# Altium integrated library Cypress Clocks & Buffers Clock Generation.IntLib: 249 symbols (part 5 of 12)
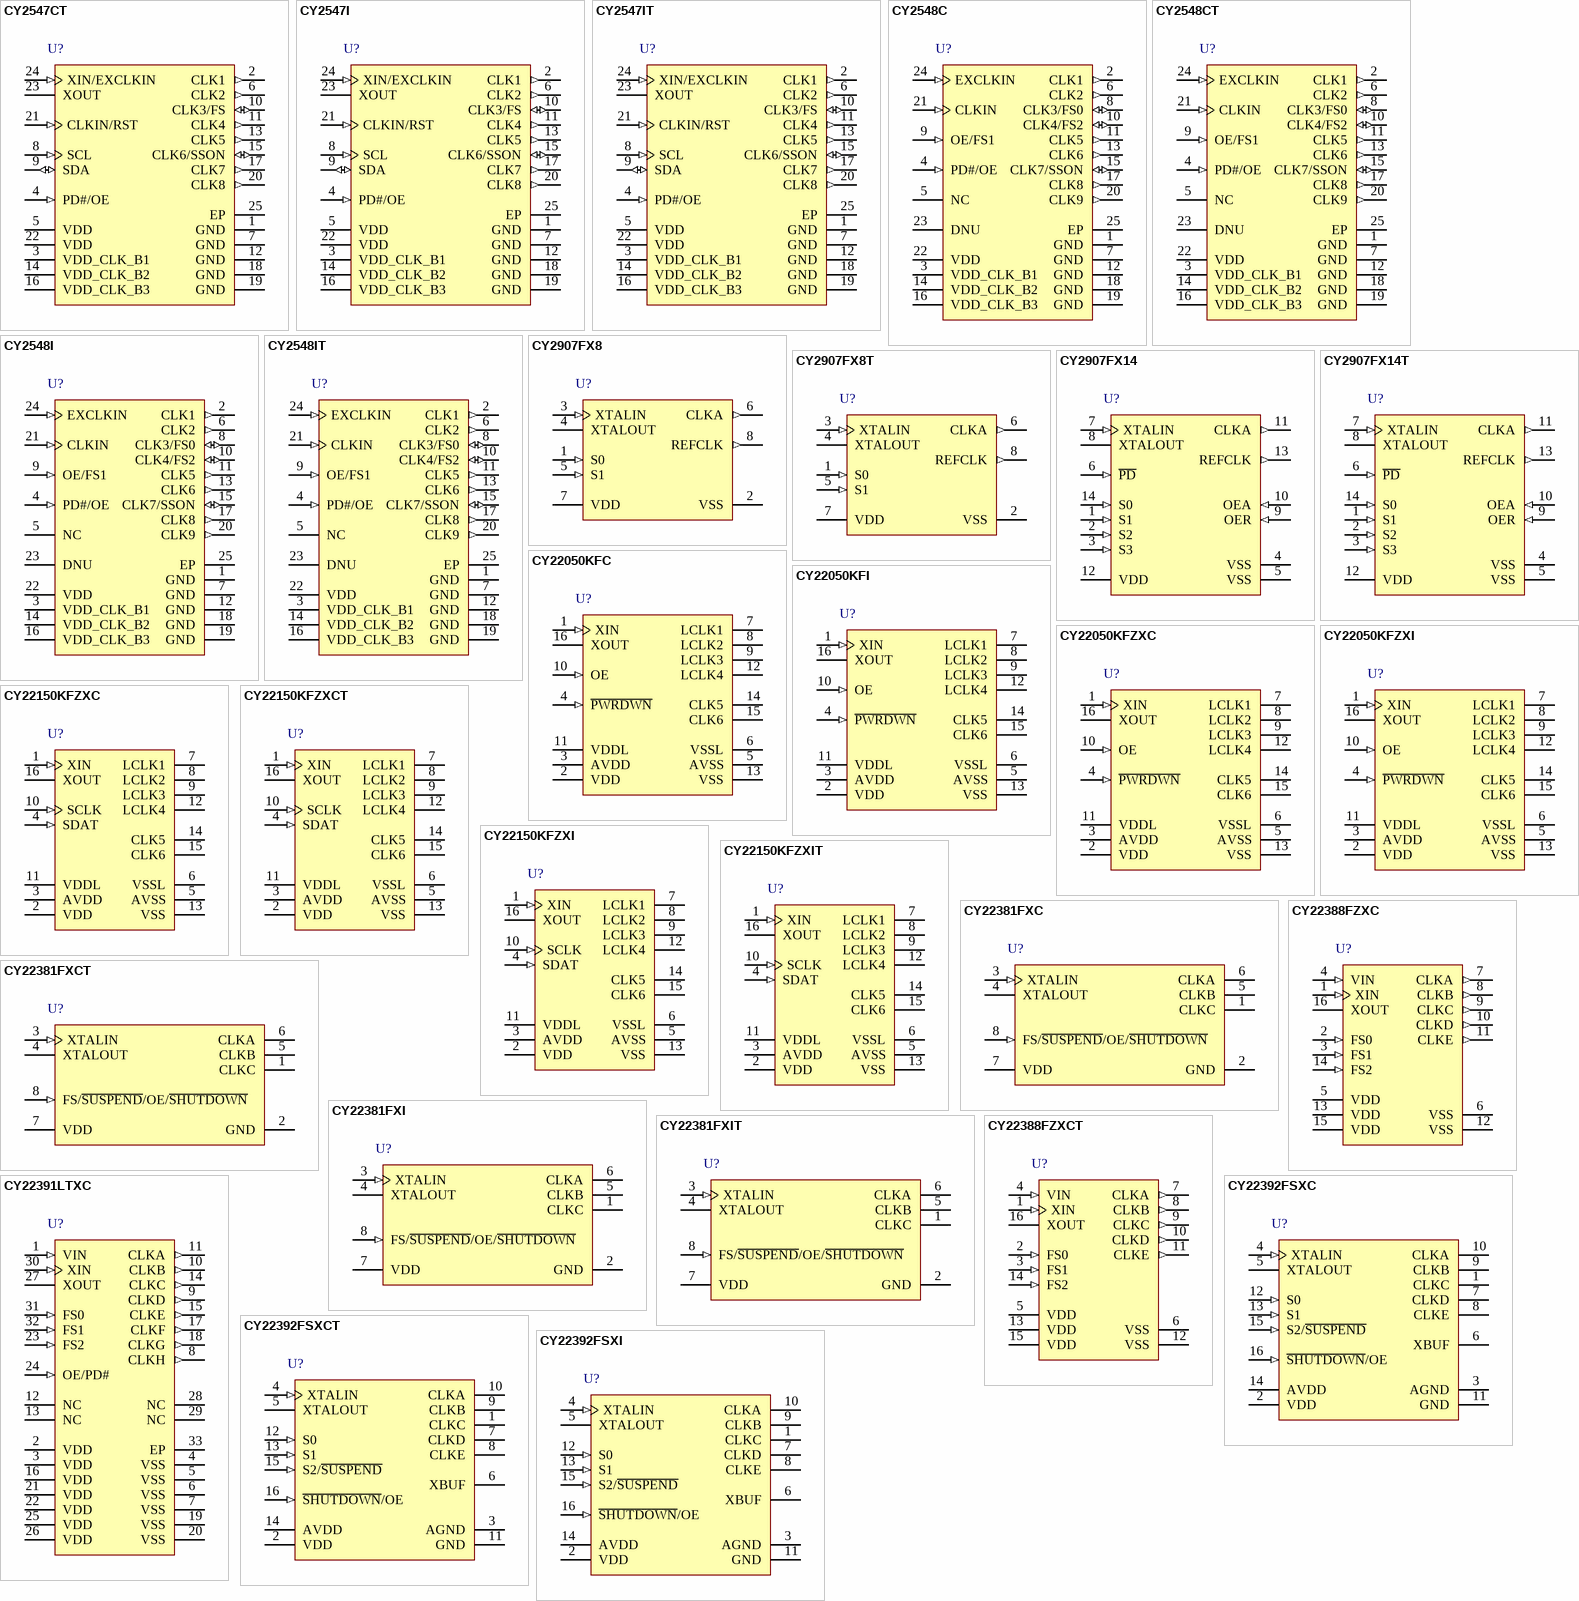
[diagram p12: symbols CY2547CT to CY22392FSXI]

## CY22391LTXC
designator U?
Factory Programmable Quad PLL Clock Generator with VCXO, 2.5 / 3.3 V, 8 Outputs, 5 to 166 MHz, 0 to 70 degC, 32-Pin QFN (LTX32), Tube; Manufacturer: Cypress; PartNumber: CY22391LTXC; Input Frequency Max. (MHz): 100; Input Frequency Min. (MHz): 1; Max. Operating Voltage (V): 3.6; Min. Operating Voltage (V): 3; No. of Outputs: 8; Output Frequency Max. (MHz): 166; Output Frequency Min. (MHz): 5; DatasheetVersion: Rev. *G; PackageVersion: Rev. *D, 09/2012; PackageReference: LTX32; PackageDescription: 32-Pin Swan QFN, Body 5 x 5 mm, Pitch 0.5 mm; Supplier 1: Digi-Key; Supplier Part Number 1: CY22391LTXC-ND; Supplier 2: Mouser; Supplier Part Number 2: 727-CY22391LTXC; Max. Operating Temp. (degreesC): 70; Min. Operating Temp. (degreesC): 0; Packing: Tube; RoHS: Pb-Free; Mounting Technology: Surface Mount; Code_JEDEC: MO-220; ComponentLink1Description: Manufacturer URL; ComponentLink1URL: http://www.cypress.com/; ComponentLink2Description: Datasheet; ComponentLink2URL: http://www.cypress.com/?docID=46154; ComponentLink3Description: Package Specification; ComponentLink3URL: http://www.cypress.com/?docID=39513
footprint CYP-LTX32_N (QFN, 32-Leads, Body 5.1x5.1mm, Pitch 0.5mm, Thermal Pad 3.5x3.5mm, IPC Medium Density)
footprint CYP-LTX32_L (QFN, 32-Leads, Body 5.1x5.1mm, Pitch 0.5mm, Thermal Pad 3.5x3.5mm, IPC High Density)
footprint CYP-LTX32_M (QFN, 32-Leads, Body 5.1x5.1mm, Pitch 0.5mm, Thermal Pad 3.5x3.5mm, IPC Low Density)
pins: 1 VIN (in) "Analog control input for VCXO", 2 VDD (power) "Voltage supply", 3 VDD (power) "Voltage supply", 4 VSS (power) "Ground", 5 VSS (power) "Ground", 6 VSS (power) "Ground", 7 VSS (power) "Ground", 8 CLKH (out) "Clock output", 9 CLKD (out) "Clock output", 10 CLKB (out) "Clock output", 11 CLKA (out) "Clock output", 12 NC "No connect.", 13 NC "No connect.", 14 CLKC (out) "Clock output", 15 CLKE (out) "Clock output", 16 VDD (power) "Voltage supply", 17 CLKF (out) "Clock output", 18 CLKG (out) "Clock output", 19 VSS (power) "Ground", 20 VSS (power) "Ground", 21 VDD (power) "Voltage supply", 22 VDD (power) "Voltage supply", 23 FS2 (in) "Frequency select 2", 24 OE/PD# (in) "Programmable control pin: Output enable (active-high) or power-down (active-low)", 25 VDD (power) "Voltage supply", 26 VDD (power) "Voltage supply", 27 XOUT "Crystal output (No connect if external clock is used)", 28 NC "No connect.", 29 NC "No connect.", 30 XIN (in) "Crystal input or reference clock input", 31 FS0 (in) "Frequency select 0", 32 FS1 (in) "Frequency select 1", 33 EP

## CY22392FSXC
designator U?
Three-PLL General Purpose Flash Programmable Clock Generator, 3.3 V, 6 Outputs, 200 MHz Maximum, 0 to 70 degC, 16-Pin SOIC (SZ16), Tube; Manufacturer: Cypress; PartNumber: CY22392FSXC; Input Frequency Max. (MHz): 166; Input Frequency Min. (MHz): 1; Max. Operating Voltage (V): 3.465; Min. Operating Voltage (V): 3.135; No. of Outputs: 6; Output Frequency Max. (MHz): 200; DatasheetVersion: Rev. *I; PackageVersion: Rev. *E; PackageReference: SZ16; PackageDescription: 16-Pin Small Outline Integrated Circuit Package, Body 9.893 x 3.8985 mm, Pitch 1.27 mm; Max. Operating Temp. (degreesC): 70; Min. Operating Temp. (degreesC): 0; Packing: Tube; RoHS: Pb-Free; Mounting Technology: Surface Mount; Code_JEDEC: MS-012; ComponentLink1Description: Manufacturer URL; ComponentLink1URL: http://www.cypress.com/; ComponentLink2Description: Datasheet; ComponentLink2URL: http://www.cypress.com/?docID=42925; ComponentLink3Description: Package Specification; ComponentLink3URL: http://www.cypress.com/?docID=42925
footprint CYP-SZ16_N (SOIC, 16-Leads, Body 10x4mm, Pitch 1.27mm, IPC Medium Density)
footprint CYP-SZ16_L (SOIC, 16-Leads, Body 10x4mm, Pitch 1.27mm, IPC High Density)
footprint CYP-SZ16_M (SOIC, 16-Leads, Body 10x4mm, Pitch 1.27mm, IPC Low Density)
pins: 1 CLKC (hiz) "Configurable clock output C", 2 VDD (power) "Power supply", 3 AGND (power) "Analog Ground", 4 XTALIN (in) "Reference crystal input or external reference clock input", 5 XTALOUT "Reference crystal feedback", 6 XBUF (hiz) "Buffered reference clock output", 7 CLKD (hiz) "Configurable clock output D", 8 CLKE (hiz) "Configurable clock output E", 9 CLKB (hiz) "Configurable clock output B", 10 CLKA (hiz) "Configurable clock output A", 11 GND (power) "Ground", 12 S0 (in) "General Purpose Input for Frequency Control; bit 0", 13 S1 (in) "General Purpose Input for Frequency Control; bit 1", 14 AVDD (power) "Analog Power Supply", 15 S2/~{SUSPEND} (in) "General Purpose Input for Frequency Control; bit 2. Optionally Suspend mode control input.", 16 ~{SHUTDOWN}/OE (in) "Places outputs in three-state condition and shuts down chip when Low. Optionally, only places outputs in tristate condition and does not shut down chip when Low."

## CY22392FSXCT
designator U?
Three-PLL General Purpose Flash Programmable Clock Generator, 3.3 V, 6 Outputs, 200 MHz Maximum, 0 to 70 degC, 16-Pin SOIC (SZ16), Tape and Reel; Manufacturer: Cypress; PartNumber: CY22392FSXCT; Input Frequency Max. (MHz): 166; Input Frequency Min. (MHz): 1; Max. Operating Voltage (V): 3.465; Min. Operating Voltage (V): 3.135; No. of Outputs: 6; Output Frequency Max. (MHz): 200; DatasheetVersion: Rev. *I; PackageVersion: Rev. *E; PackageReference: SZ16; PackageDescription: 16-Pin Small Outline Integrated Circuit Package, Body 9.893 x 3.8985 mm, Pitch 1.27 mm; Max. Operating Temp. (degreesC): 70; Min. Operating Temp. (degreesC): 0; Packing: Tape and Reel; RoHS: Pb-Free; Mounting Technology: Surface Mount; Code_JEDEC: MS-012; ComponentLink1Description: Manufacturer URL; ComponentLink1URL: http://www.cypress.com/; ComponentLink2Description: Datasheet; ComponentLink2URL: http://www.cypress.com/?docID=42925; ComponentLink3Description: Package Specification; ComponentLink3URL: http://www.cypress.com/?docID=42925
footprint CYP-SZ16_N (SOIC, 16-Leads, Body 10x4mm, Pitch 1.27mm, IPC Medium Density)
footprint CYP-SZ16_L (SOIC, 16-Leads, Body 10x4mm, Pitch 1.27mm, IPC High Density)
footprint CYP-SZ16_M (SOIC, 16-Leads, Body 10x4mm, Pitch 1.27mm, IPC Low Density)
pins: 1 CLKC (hiz) "Configurable clock output C", 2 VDD (power) "Power supply", 3 AGND (power) "Analog Ground", 4 XTALIN (in) "Reference crystal input or external reference clock input", 5 XTALOUT "Reference crystal feedback", 6 XBUF (hiz) "Buffered reference clock output", 7 CLKD (hiz) "Configurable clock output D", 8 CLKE (hiz) "Configurable clock output E", 9 CLKB (hiz) "Configurable clock output B", 10 CLKA (hiz) "Configurable clock output A", 11 GND (power) "Ground", 12 S0 (in) "General Purpose Input for Frequency Control; bit 0", 13 S1 (in) "General Purpose Input for Frequency Control; bit 1", 14 AVDD (power) "Analog Power Supply", 15 S2/~{SUSPEND} (in) "General Purpose Input for Frequency Control; bit 2. Optionally Suspend mode control input.", 16 ~{SHUTDOWN}/OE (in) "Places outputs in three-state condition and shuts down chip when Low. Optionally, only places outputs in tristate condition and does not shut down chip when Low."

## CY22392FSXI
designator U?
Three-PLL General Purpose Flash Programmable Clock Generator, 3.3 V, 6 Outputs, 166 MHz Maximum, -40 to 85 degC, 16-Pin SOIC (SX16), Tube; Manufacturer: Cypress; PartNumber: CY22392FSXI; Input Frequency Max. (MHz): 150; Input Frequency Min. (MHz): 1; Max. Operating Voltage (V): 3.465; Min. Operating Voltage (V): 3.135; No. of Outputs: 6; Output Frequency Max. (MHz): 166; DatasheetVersion: Rev. *I; PackageVersion: Rev. *E, 09/2012; PackageReference: SX16; PackageDescription: 16-Pin SOIC (150 MIL), Body 9.89 x 3.90 mm, Pitch 1.27 mm; Max. Operating Temp. (degreesC): 85; Min. Operating Temp. (degreesC): -40; Packing: Tube; RoHS: Pb-Free; Mounting Technology: Surface Mount; Code_JEDEC: MS-012; ComponentLink1Description: Manufacturer URL; ComponentLink1URL: http://www.cypress.com/; ComponentLink2Description: Datasheet; ComponentLink2URL: http://www.cypress.com/?docID=42925; ComponentLink3Description: Package Specification; ComponentLink3URL: http://www.cypress.com/?docID=39437
footprint CYP-SX16_N (SOIC, 16-Leads, Body 9.9x3.9mm, Pitch 1.27mm, IPC Medium Density)
footprint CYP-SX16_L (SOIC, 16-Leads, Body 9.9x3.9mm, Pitch 1.27mm, IPC High Density)
footprint CYP-SX16_M (SOIC, 16-Leads, Body 9.9x3.9mm, Pitch 1.27mm, IPC Low Density)
pins: 1 CLKC (hiz) "Configurable clock output C", 2 VDD (power) "Power supply", 3 AGND (power) "Analog Ground", 4 XTALIN (in) "Reference crystal input or external reference clock input", 5 XTALOUT "Reference crystal feedback", 6 XBUF (hiz) "Buffered reference clock output", 7 CLKD (hiz) "Configurable clock output D", 8 CLKE (hiz) "Configurable clock output E", 9 CLKB (hiz) "Configurable clock output B", 10 CLKA (hiz) "Configurable clock output A", 11 GND (power) "Ground", 12 S0 (in) "General Purpose Input for Frequency Control; bit 0", 13 S1 (in) "General Purpose Input for Frequency Control; bit 1", 14 AVDD (power) "Analog Power Supply", 15 S2/~{SUSPEND} (in) "General Purpose Input for Frequency Control; bit 2. Optionally Suspend mode control input.", 16 ~{SHUTDOWN}/OE (in) "Places outputs in three-state condition and shuts down chip when Low. Optionally, only places outputs in tristate condition and does not shut down chip when Low."

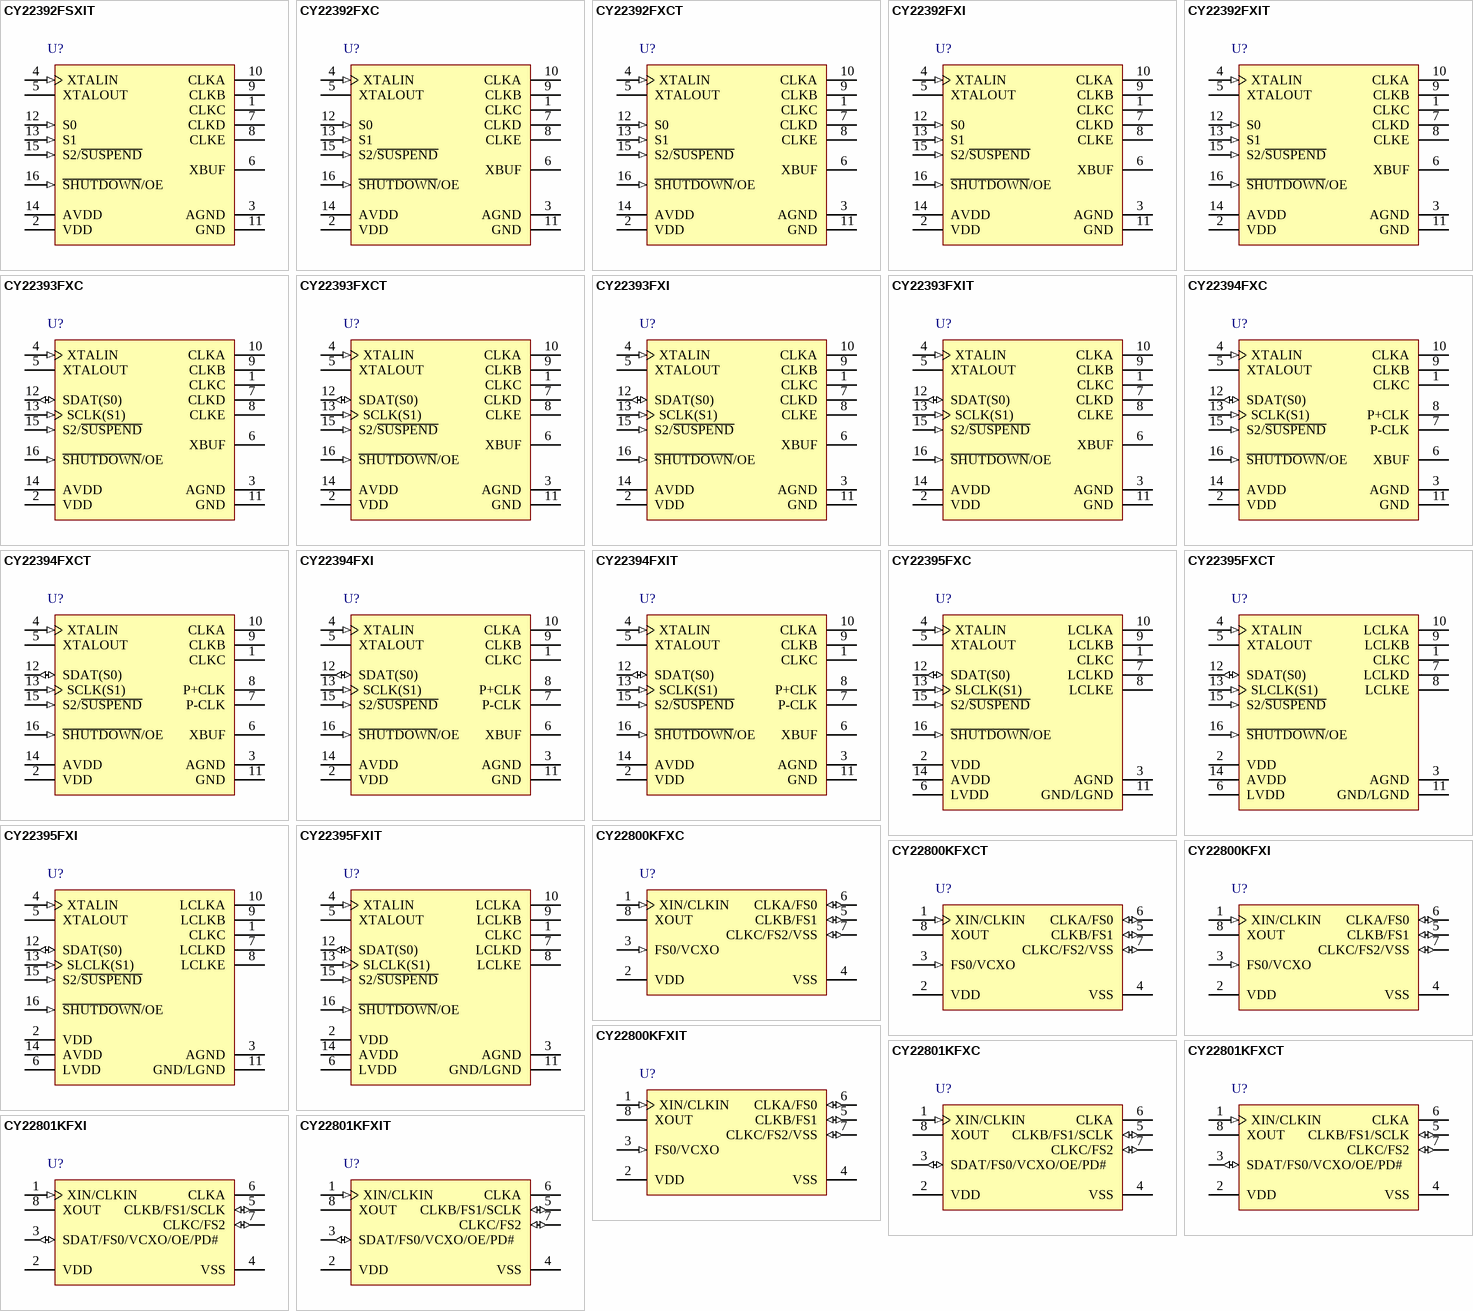
[diagram p3: symbols CY22392FSXIT to CY22801KFXIT]

## CY22392FSXIT
designator U?
Three-PLL General Purpose Flash Programmable Clock Generator, 3.3 V, 6 Outputs, 166 MHz Maximum, -40 to 85 degC, 16-Pin SOIC (SX16), Tape and Reel; Manufacturer: Cypress; PartNumber: CY22392FSXIT; Input Frequency Max. (MHz): 150; Input Frequency Min. (MHz): 1; Max. Operating Voltage (V): 3.465; Min. Operating Voltage (V): 3.135; No. of Outputs: 6; Output Frequency Max. (MHz): 166; DatasheetVersion: Rev. *I; PackageVersion: Rev. *E, 09/2012; PackageReference: SX16; PackageDescription: 16-Pin SOIC (150 MIL), Body 9.89 x 3.90 mm, Pitch 1.27 mm; Max. Operating Temp. (degreesC): 85; Min. Operating Temp. (degreesC): -40; Packing: Tape and Reel; RoHS: Pb-Free; Mounting Technology: Surface Mount; Code_JEDEC: MS-012; ComponentLink1Description: Manufacturer URL; ComponentLink1URL: http://www.cypress.com/; ComponentLink2Description: Datasheet; ComponentLink2URL: http://www.cypress.com/?docID=42925; ComponentLink3Description: Package Specification; ComponentLink3URL: http://www.cypress.com/?docID=39437
footprint CYP-SX16_N (SOIC, 16-Leads, Body 9.9x3.9mm, Pitch 1.27mm, IPC Medium Density)
footprint CYP-SX16_L (SOIC, 16-Leads, Body 9.9x3.9mm, Pitch 1.27mm, IPC High Density)
footprint CYP-SX16_M (SOIC, 16-Leads, Body 9.9x3.9mm, Pitch 1.27mm, IPC Low Density)
pins: 1 CLKC (hiz) "Configurable clock output C", 2 VDD (power) "Power supply", 3 AGND (power) "Analog Ground", 4 XTALIN (in) "Reference crystal input or external reference clock input", 5 XTALOUT "Reference crystal feedback", 6 XBUF (hiz) "Buffered reference clock output", 7 CLKD (hiz) "Configurable clock output D", 8 CLKE (hiz) "Configurable clock output E", 9 CLKB (hiz) "Configurable clock output B", 10 CLKA (hiz) "Configurable clock output A", 11 GND (power) "Ground", 12 S0 (in) "General Purpose Input for Frequency Control; bit 0", 13 S1 (in) "General Purpose Input for Frequency Control; bit 1", 14 AVDD (power) "Analog Power Supply", 15 S2/~{SUSPEND} (in) "General Purpose Input for Frequency Control; bit 2. Optionally Suspend mode control input.", 16 ~{SHUTDOWN}/OE (in) "Places outputs in three-state condition and shuts down chip when Low. Optionally, only places outputs in tristate condition and does not shut down chip when Low."

## CY22392FXC
designator U?
Three-PLL General Purpose Flash Programmable Clock Generator, 3.3 V, 6 Outputs, 200 MHz Maximum, 0 to 70 degC, 16-Pin TSSOP (ZX16), Tube; Manufacturer: Cypress; PartNumber: CY22392FXC; Input Frequency Max. (MHz): 166; Input Frequency Min. (MHz): 1; Max. Operating Voltage (V): 3.465; Min. Operating Voltage (V): 3.135; No. of Outputs: 6; Output Frequency Max. (MHz): 200; DatasheetVersion: Rev. *I; PackageVersion: Rev. *D, 09/2011; PackageReference: ZX16; PackageDescription: 16-Pin Thin Shrink Small Outline Package, Body 5 x 4.4 mm, Pitch 0.65 mm; Supplier 1: Digi-Key; Supplier Part Number 1: 428-1743-5-ND; Supplier 2: Farnell; Supplier Part Number 2: 1837331; Supplier 3: Newark; Supplier Part Number 3: 19M5883; Supplier 4: Mouser; Supplier Part Number 4: 727-CY22392FXC; Max. Operating Temp. (degreesC): 70; Min. Operating Temp. (degreesC): 0; Packing: Tube; RoHS: Pb-Free; Mounting Technology: Surface Mount; Code_JEDEC: MO-153; ComponentLink1Description: Manufacturer URL; ComponentLink1URL: http://www.cypress.com/; ComponentLink2Description: Datasheet; ComponentLink2URL: http://www.cypress.com/?docID=42925; ComponentLink3Description: Package Specification; ComponentLink3URL: http://www.cypress.com/?docID=39143
footprint CYP-ZX16_N (SOP, 16-Leads, Body 5.1x4.5mm, Pitch 0.65mm, IPC Medium Density)
footprint CYP-ZX16_L (SOP, 16-Leads, Body 5.1x4.5mm, Pitch 0.65mm, IPC High Density)
footprint CYP-ZX16_M (SOP, 16-Leads, Body 5.1x4.5mm, Pitch 0.65mm, IPC Low Density)
pins: 1 CLKC (hiz) "Configurable clock output C", 2 VDD (power) "Power supply", 3 AGND (power) "Analog Ground", 4 XTALIN (in) "Reference crystal input or external reference clock input", 5 XTALOUT "Reference crystal feedback", 6 XBUF (hiz) "Buffered reference clock output", 7 CLKD (hiz) "Configurable clock output D", 8 CLKE (hiz) "Configurable clock output E", 9 CLKB (hiz) "Configurable clock output B", 10 CLKA (hiz) "Configurable clock output A", 11 GND (power) "Ground", 12 S0 (in) "General Purpose Input for Frequency Control; bit 0", 13 S1 (in) "General Purpose Input for Frequency Control; bit 1", 14 AVDD (power) "Analog Power Supply", 15 S2/~{SUSPEND} (in) "General Purpose Input for Frequency Control; bit 2. Optionally Suspend mode control input.", 16 ~{SHUTDOWN}/OE (in) "Places outputs in three-state condition and shuts down chip when Low. Optionally, only places outputs in tristate condition and does not shut down chip when Low."

## CY22392FXCT
designator U?
Three-PLL General Purpose Flash Programmable Clock Generator, 3.3 V, 6 Outputs, 200 MHz Maximum, 0 to 70 degC, 16-Pin TSSOP (ZZ16), Tape and Reel; Manufacturer: Cypress; PartNumber: CY22392FXCT; Input Frequency Max. (MHz): 166; Input Frequency Min. (MHz): 1; Max. Operating Voltage (V): 3.465; Min. Operating Voltage (V): 3.135; No. of Outputs: 6; Output Frequency Max. (MHz): 200; DatasheetVersion: Rev. *I; PackageVersion: Rev. *D; PackageReference: ZZ16; PackageDescription: 16-Pin Thin Shrink Small Outline Package, Body 5 x 4.4 mm, Pitch 0.65 mm; Supplier 1: Digi-Key; Supplier Part Number 1: CY22392FXCT-ND; Supplier 2: Mouser; Supplier Part Number 2: 727-CY22392FXCT; Max. Operating Temp. (degreesC): 70; Min. Operating Temp. (degreesC): 0; Packing: Tape and Reel; RoHS: Pb-Free; Mounting Technology: Surface Mount; Code_JEDEC: MO-153; ComponentLink1Description: Manufacturer URL; ComponentLink1URL: http://www.cypress.com/; ComponentLink2Description: Datasheet; ComponentLink2URL: http://www.cypress.com/?docID=42925; ComponentLink3Description: Package Specification; ComponentLink3URL: http://www.cypress.com/?docID=42925
footprint CYP-ZZ16_N (SOP, 16-Leads, Body 5.1x4.5mm, Pitch 0.65mm, IPC Medium Density)
footprint CYP-ZZ16_L (SOP, 16-Leads, Body 5.1x4.5mm, Pitch 0.65mm, IPC High Density)
footprint CYP-ZZ16_M (SOP, 16-Leads, Body 5.1x4.5mm, Pitch 0.65mm, IPC Low Density)
pins: 1 CLKC (hiz) "Configurable clock output C", 2 VDD (power) "Power supply", 3 AGND (power) "Analog Ground", 4 XTALIN (in) "Reference crystal input or external reference clock input", 5 XTALOUT "Reference crystal feedback", 6 XBUF (hiz) "Buffered reference clock output", 7 CLKD (hiz) "Configurable clock output D", 8 CLKE (hiz) "Configurable clock output E", 9 CLKB (hiz) "Configurable clock output B", 10 CLKA (hiz) "Configurable clock output A", 11 GND (power) "Ground", 12 S0 (in) "General Purpose Input for Frequency Control; bit 0", 13 S1 (in) "General Purpose Input for Frequency Control; bit 1", 14 AVDD (power) "Analog Power Supply", 15 S2/~{SUSPEND} (in) "General Purpose Input for Frequency Control; bit 2. Optionally Suspend mode control input.", 16 ~{SHUTDOWN}/OE (in) "Places outputs in three-state condition and shuts down chip when Low. Optionally, only places outputs in tristate condition and does not shut down chip when Low."

## CY22392FXI
designator U?
Three-PLL General Purpose Flash Programmable Clock Generator, 3.3 V, 6 Outputs, 166 MHz Maximum, -40 to 85 degC, 16-Pin TSSOP (ZZ16), Tube; Manufacturer: Cypress; PartNumber: CY22392FXI; Input Frequency Max. (MHz): 150; Input Frequency Min. (MHz): 1; Max. Operating Voltage (V): 3.465; Min. Operating Voltage (V): 3.135; No. of Outputs: 6; Output Frequency Max. (MHz): 166; DatasheetVersion: Rev. *I; PackageVersion: Rev. *D; PackageReference: ZZ16; PackageDescription: 16-Pin Thin Shrink Small Outline Package, Body 5 x 4.4 mm, Pitch 0.65 mm; Supplier 1: Digi-Key; Supplier Part Number 1: 428-2179-5-ND; Supplier 2: Farnell; Supplier Part Number 2: 1873034; Supplier 3: Newark; Supplier Part Number 3: 19M5885; Supplier 4: Mouser; Supplier Part Number 4: 727-CY22392FXI; Max. Operating Temp. (degreesC): 85; Min. Operating Temp. (degreesC): -40; Packing: Tube; RoHS: Pb-Free; Mounting Technology: Surface Mount; Code_JEDEC: MO-153; ComponentLink1Description: Manufacturer URL; ComponentLink1URL: http://www.cypress.com/; ComponentLink2Description: Datasheet; ComponentLink2URL: http://www.cypress.com/?docID=42925; ComponentLink3Description: Package Specification; ComponentLink3URL: http://www.cypress.com/?docID=42925
footprint CYP-ZZ16_N (SOP, 16-Leads, Body 5.1x4.5mm, Pitch 0.65mm, IPC Medium Density)
footprint CYP-ZZ16_L (SOP, 16-Leads, Body 5.1x4.5mm, Pitch 0.65mm, IPC High Density)
footprint CYP-ZZ16_M (SOP, 16-Leads, Body 5.1x4.5mm, Pitch 0.65mm, IPC Low Density)
pins: 1 CLKC (hiz) "Configurable clock output C", 2 VDD (power) "Power supply", 3 AGND (power) "Analog Ground", 4 XTALIN (in) "Reference crystal input or external reference clock input", 5 XTALOUT "Reference crystal feedback", 6 XBUF (hiz) "Buffered reference clock output", 7 CLKD (hiz) "Configurable clock output D", 8 CLKE (hiz) "Configurable clock output E", 9 CLKB (hiz) "Configurable clock output B", 10 CLKA (hiz) "Configurable clock output A", 11 GND (power) "Ground", 12 S0 (in) "General Purpose Input for Frequency Control; bit 0", 13 S1 (in) "General Purpose Input for Frequency Control; bit 1", 14 AVDD (power) "Analog Power Supply", 15 S2/~{SUSPEND} (in) "General Purpose Input for Frequency Control; bit 2. Optionally Suspend mode control input.", 16 ~{SHUTDOWN}/OE (in) "Places outputs in three-state condition and shuts down chip when Low. Optionally, only places outputs in tristate condition and does not shut down chip when Low."

## CY22392FXIT
designator U?
Three-PLL General Purpose Flash Programmable Clock Generator, 3.3 V, 6 Outputs, 166 MHz Maximum, -40 to 85 degC, 16-Pin TSSOP (ZX16), Tape and Reel; Manufacturer: Cypress; PartNumber: CY22392FXIT; Input Frequency Max. (MHz): 150; Input Frequency Min. (MHz): 1; Max. Operating Voltage (V): 3.465; Min. Operating Voltage (V): 3.135; No. of Outputs: 6; Output Frequency Max. (MHz): 166; DatasheetVersion: Rev. *I; PackageVersion: Rev. *D, 09/2011; PackageReference: ZX16; PackageDescription: 16-Pin Thin Shrink Small Outline Package, Body 5 x 4.4 mm, Pitch 0.65 mm; Supplier 1: Digi-Key; Supplier Part Number 1: CY22392FXIT-ND; Supplier 2: Mouser; Supplier Part Number 2: 727-CY22392FXIT; Max. Operating Temp. (degreesC): 85; Min. Operating Temp. (degreesC): -40; Packing: Tape and Reel; RoHS: Pb-Free; Mounting Technology: Surface Mount; Code_JEDEC: MO-153; ComponentLink1Description: Manufacturer URL; ComponentLink1URL: http://www.cypress.com/; ComponentLink2Description: Datasheet; ComponentLink2URL: http://www.cypress.com/?docID=42925; ComponentLink3Description: Package Specification; ComponentLink3URL: http://www.cypress.com/?docID=39143
footprint CYP-ZX16_N (SOP, 16-Leads, Body 5.1x4.5mm, Pitch 0.65mm, IPC Medium Density)
footprint CYP-ZX16_L (SOP, 16-Leads, Body 5.1x4.5mm, Pitch 0.65mm, IPC High Density)
footprint CYP-ZX16_M (SOP, 16-Leads, Body 5.1x4.5mm, Pitch 0.65mm, IPC Low Density)
pins: 1 CLKC (hiz) "Configurable clock output C", 2 VDD (power) "Power supply", 3 AGND (power) "Analog Ground", 4 XTALIN (in) "Reference crystal input or external reference clock input", 5 XTALOUT "Reference crystal feedback", 6 XBUF (hiz) "Buffered reference clock output", 7 CLKD (hiz) "Configurable clock output D", 8 CLKE (hiz) "Configurable clock output E", 9 CLKB (hiz) "Configurable clock output B", 10 CLKA (hiz) "Configurable clock output A", 11 GND (power) "Ground", 12 S0 (in) "General Purpose Input for Frequency Control; bit 0", 13 S1 (in) "General Purpose Input for Frequency Control; bit 1", 14 AVDD (power) "Analog Power Supply", 15 S2/~{SUSPEND} (in) "General Purpose Input for Frequency Control; bit 2. Optionally Suspend mode control input.", 16 ~{SHUTDOWN}/OE (in) "Places outputs in three-state condition and shuts down chip when Low. Optionally, only places outputs in tristate condition and does not shut down chip when Low."

## CY22393FXC
designator U?
Three-PLL Serial-Programmable Flash-Programmable Clock Generator, 3.3 V, 6 Outputs, 200 MHz Maximum, 0 to 70 degC, 16-Pin TSSOP (ZX16), Tube; Manufacturer: Cypress; PartNumber: CY22393FXC; Input Frequency Max. (MHz): 166; Input Frequency Min. (MHz): 1; Max. Operating Voltage (V): 3.465; Min. Operating Voltage (V): 3.135; No. of Outputs: 6; Output Frequency Max. (MHz): 200; DatasheetVersion: Rev. *I; PackageVersion: Rev. *D, 09/2011; PackageReference: ZX16; PackageDescription: 16-Pin Thin Shrink Small Outline Package, Body 5 x 4.4 mm, Pitch 0.65 mm; Supplier 1: Digi-Key; Supplier Part Number 1: 428-1744-5-ND; Supplier 2: Newark; Supplier Part Number 2: 19M5891; Supplier 3: Newark; Supplier Part Number 3: 01N4910; Supplier 4: Mouser; Supplier Part Number 4: 727-CY22393FXC; Max. Operating Temp. (degreesC): 70; Min. Operating Temp. (degreesC): 0; Packing: Tube; RoHS: Pb-Free; Mounting Technology: Surface Mount; Code_JEDEC: MO-153; ComponentLink1Description: Manufacturer URL; ComponentLink1URL: http://www.cypress.com/; ComponentLink2Description: Datasheet; ComponentLink2URL: http://www.cypress.com/?docID=35555; ComponentLink3Description: Package Specification; ComponentLink3URL: http://www.cypress.com/?docID=39143
footprint CYP-ZX16_N (SOP, 16-Leads, Body 5.1x4.5mm, Pitch 0.65mm, IPC Medium Density)
footprint CYP-ZX16_L (SOP, 16-Leads, Body 5.1x4.5mm, Pitch 0.65mm, IPC High Density)
footprint CYP-ZX16_M (SOP, 16-Leads, Body 5.1x4.5mm, Pitch 0.65mm, IPC Low Density)
pins: 1 CLKC (hiz) "Configurable clock output C", 2 VDD (power) "Power supply", 3 AGND (power) "Analog Ground", 4 XTALIN (in) "Reference crystal input or external reference clock input", 5 XTALOUT "Reference crystal feedback", 6 XBUF (hiz) "Buffered reference clock output", 7 CLKD (hiz) "Configurable clock output D; LCLKD referenced to LVDD", 8 CLKE (hiz) "Configurable clock output E; LCLKE referenced to LVDD", 9 CLKB (hiz) "Configurable clock output B; LCLKB referenced to LVDD", 10 CLKA (hiz) "Configurable clock output A; LCLKA referenced to LVDD", 11 GND (power) "Ground", 12 SDAT(S0) (io) "Serial port data. S0 value latched during start up", 13 SCLK(S1) (in) "Serial port clock. S1 value latched during start up", 14 AVDD (power) "Analog power supply", 15 S2/~{SUSPEND} (in) "General purpose input for frequency control; bit 2. Optionally, Suspend mode control input", 16 ~{SHUTDOWN}/OE (in) "Places outputs in tristate condition and shuts down chip when LOW. Optionally, only places outputs in tristate condition and does not shut down chip when LOW"

## CY22393FXCT
designator U?
Three-PLL Serial-Programmable Flash-Programmable Clock Generator, 3.3 V, 6 Outputs, 200 MHz Maximum, 0 to 70 degC, 16-Pin TSSOP (ZX16), Tape and Reel; Manufacturer: Cypress; PartNumber: CY22393FXCT; Input Frequency Max. (MHz): 166; Input Frequency Min. (MHz): 1; Max. Operating Voltage (V): 3.465; Min. Operating Voltage (V): 3.135; No. of Outputs: 6; Output Frequency Max. (MHz): 200; DatasheetVersion: Rev. *I; PackageVersion: Rev. *D, 09/2011; PackageReference: ZX16; PackageDescription: 16-Pin Thin Shrink Small Outline Package, Body 5 x 4.4 mm, Pitch 0.65 mm; Supplier 1: Digi-Key; Supplier Part Number 1: CY22393FXCT-ND; Supplier 2: Newark; Supplier Part Number 2: 19M5892; Supplier 3: Mouser; Supplier Part Number 3: 727-CY22393FXCT; Max. Operating Temp. (degreesC): 70; Min. Operating Temp. (degreesC): 0; Packing: Tape and Reel; RoHS: Pb-Free; Mounting Technology: Surface Mount; Code_JEDEC: MO-153; ComponentLink1Description: Manufacturer URL; ComponentLink1URL: http://www.cypress.com/; ComponentLink2Description: Datasheet; ComponentLink2URL: http://www.cypress.com/?docID=35555; ComponentLink3Description: Package Specification; ComponentLink3URL: http://www.cypress.com/?docID=39143
footprint CYP-ZX16_N (SOP, 16-Leads, Body 5.1x4.5mm, Pitch 0.65mm, IPC Medium Density)
footprint CYP-ZX16_L (SOP, 16-Leads, Body 5.1x4.5mm, Pitch 0.65mm, IPC High Density)
footprint CYP-ZX16_M (SOP, 16-Leads, Body 5.1x4.5mm, Pitch 0.65mm, IPC Low Density)
pins: 1 CLKC (hiz) "Configurable clock output C", 2 VDD (power) "Power supply", 3 AGND (power) "Analog Ground", 4 XTALIN (in) "Reference crystal input or external reference clock input", 5 XTALOUT "Reference crystal feedback", 6 XBUF (hiz) "Buffered reference clock output", 7 CLKD (hiz) "Configurable clock output D; LCLKD referenced to LVDD", 8 CLKE (hiz) "Configurable clock output E; LCLKE referenced to LVDD", 9 CLKB (hiz) "Configurable clock output B; LCLKB referenced to LVDD", 10 CLKA (hiz) "Configurable clock output A; LCLKA referenced to LVDD", 11 GND (power) "Ground", 12 SDAT(S0) (io) "Serial port data. S0 value latched during start up", 13 SCLK(S1) (in) "Serial port clock. S1 value latched during start up", 14 AVDD (power) "Analog power supply", 15 S2/~{SUSPEND} (in) "General purpose input for frequency control; bit 2. Optionally, Suspend mode control input", 16 ~{SHUTDOWN}/OE (in) "Places outputs in tristate condition and shuts down chip when LOW. Optionally, only places outputs in tristate condition and does not shut down chip when LOW"

## CY22393FXI
designator U?
Three-PLL Serial-Programmable Flash-Programmable Clock Generator, 3.3 V, 6 Outputs, 166 MHz Maximum, -40 to 85 degC, 16-Pin TSSOP (ZX16), Tube; Manufacturer: Cypress; PartNumber: CY22393FXI; Input Frequency Max. (MHz): 166; Input Frequency Min. (MHz): 1; Max. Operating Voltage (V): 3.465; Min. Operating Voltage (V): 3.135; No. of Outputs: 6; DatasheetVersion: Rev. *I; PackageVersion: Rev. *D, 09/2011; PackageReference: ZX16; PackageDescription: 16-Pin Thin Shrink Small Outline Package, Body 5 x 4.4 mm, Pitch 0.65 mm; Supplier 1: Digi-Key; Supplier Part Number 1: 428-2180-5-ND; Supplier 2: Newark; Supplier Part Number 2: 19M5893; Supplier 3: Mouser; Supplier Part Number 3: 727-CY22393FXI; Max. Operating Temp. (degreesC): 85; Min. Operating Temp. (degreesC): -40; Output Frequency Max. (MHz): 166; Packing: Tube; RoHS: Pb-Free; Mounting Technology: Surface Mount; Code_JEDEC: MO-153; ComponentLink1Description: Manufacturer URL; ComponentLink1URL: http://www.cypress.com/; ComponentLink2Description: Datasheet; ComponentLink2URL: http://www.cypress.com/?docID=35555; ComponentLink3Description: Package Specification; ComponentLink3URL: http://www.cypress.com/?docID=39143
footprint CYP-ZX16_N (SOP, 16-Leads, Body 5.1x4.5mm, Pitch 0.65mm, IPC Medium Density)
footprint CYP-ZX16_L (SOP, 16-Leads, Body 5.1x4.5mm, Pitch 0.65mm, IPC High Density)
footprint CYP-ZX16_M (SOP, 16-Leads, Body 5.1x4.5mm, Pitch 0.65mm, IPC Low Density)
pins: 1 CLKC (hiz) "Configurable clock output C", 2 VDD (power) "Power supply", 3 AGND (power) "Analog Ground", 4 XTALIN (in) "Reference crystal input or external reference clock input", 5 XTALOUT "Reference crystal feedback", 6 XBUF (hiz) "Buffered reference clock output", 7 CLKD (hiz) "Configurable clock output D; LCLKD referenced to LVDD", 8 CLKE (hiz) "Configurable clock output E; LCLKE referenced to LVDD", 9 CLKB (hiz) "Configurable clock output B; LCLKB referenced to LVDD", 10 CLKA (hiz) "Configurable clock output A; LCLKA referenced to LVDD", 11 GND (power) "Ground", 12 SDAT(S0) (io) "Serial port data. S0 value latched during start up", 13 SCLK(S1) (in) "Serial port clock. S1 value latched during start up", 14 AVDD (power) "Analog power supply", 15 S2/~{SUSPEND} (in) "General purpose input for frequency control; bit 2. Optionally, Suspend mode control input", 16 ~{SHUTDOWN}/OE (in) "Places outputs in tristate condition and shuts down chip when LOW. Optionally, only places outputs in tristate condition and does not shut down chip when LOW"

## CY22393FXIT
designator U?
Three-PLL Serial-Programmable Flash-Programmable Clock Generator, 3.3 V, 6 Outputs, 166 MHz Maximum, -40 to 85 degC, 16-Pin TSSOP (ZX16), Tape and Reel; Manufacturer: Cypress; PartNumber: CY22393FXIT; Input Frequency Max. (MHz): 166; Input Frequency Min. (MHz): 1; Max. Operating Voltage (V): 3.465; Min. Operating Voltage (V): 3.135; No. of Outputs: 6; DatasheetVersion: Rev. *I; PackageVersion: Rev. *D, 09/2011; PackageReference: ZX16; PackageDescription: 16-Pin Thin Shrink Small Outline Package, Body 5 x 4.4 mm, Pitch 0.65 mm; Supplier 1: Digi-Key; Supplier Part Number 1: CY22393FXIT-ND; Supplier 2: Mouser; Supplier Part Number 2: 727-CY22393FXIT; Max. Operating Temp. (degreesC): 85; Min. Operating Temp. (degreesC): -40; Output Frequency Max. (MHz): 166; Packing: Tape and Reel; RoHS: Pb-Free; Mounting Technology: Surface Mount; Code_JEDEC: MO-153; ComponentLink1Description: Manufacturer URL; ComponentLink1URL: http://www.cypress.com/; ComponentLink2Description: Datasheet; ComponentLink2URL: http://www.cypress.com/?docID=35555; ComponentLink3Description: Package Specification; ComponentLink3URL: http://www.cypress.com/?docID=39143
footprint CYP-ZX16_N (SOP, 16-Leads, Body 5.1x4.5mm, Pitch 0.65mm, IPC Medium Density)
footprint CYP-ZX16_L (SOP, 16-Leads, Body 5.1x4.5mm, Pitch 0.65mm, IPC High Density)
footprint CYP-ZX16_M (SOP, 16-Leads, Body 5.1x4.5mm, Pitch 0.65mm, IPC Low Density)
pins: 1 CLKC (hiz) "Configurable clock output C", 2 VDD (power) "Power supply", 3 AGND (power) "Analog Ground", 4 XTALIN (in) "Reference crystal input or external reference clock input", 5 XTALOUT "Reference crystal feedback", 6 XBUF (hiz) "Buffered reference clock output", 7 CLKD (hiz) "Configurable clock output D; LCLKD referenced to LVDD", 8 CLKE (hiz) "Configurable clock output E; LCLKE referenced to LVDD", 9 CLKB (hiz) "Configurable clock output B; LCLKB referenced to LVDD", 10 CLKA (hiz) "Configurable clock output A; LCLKA referenced to LVDD", 11 GND (power) "Ground", 12 SDAT(S0) (io) "Serial port data. S0 value latched during start up", 13 SCLK(S1) (in) "Serial port clock. S1 value latched during start up", 14 AVDD (power) "Analog power supply", 15 S2/~{SUSPEND} (in) "General purpose input for frequency control; bit 2. Optionally, Suspend mode control input", 16 ~{SHUTDOWN}/OE (in) "Places outputs in tristate condition and shuts down chip when LOW. Optionally, only places outputs in tristate condition and does not shut down chip when LOW"

## CY22394FXC
designator U?
Three-PLL Serial-Programmable Flash-Programmable Clock Generator, 3.3 V, 5 Outputs, 400 MHz Maximum, 0 to 70 degC, 16-Pin TSSOP (ZX16), Tube; Manufacturer: Cypress; PartNumber: CY22394FXC; Input Frequency Max. (MHz): 166; Input Frequency Min. (MHz): 1; Max. Operating Voltage (V): 3.465; Min. Operating Voltage (V): 3.135; No. of Outputs: 5; Output Frequency Max. (MHz): 400; DatasheetVersion: Rev. *I; PackageVersion: Rev. *D, 09/2011; PackageReference: ZX16; PackageDescription: 16-Pin Thin Shrink Small Outline Package, Body 5 x 4.4 mm, Pitch 0.65 mm; Supplier 1: Digi-Key; Supplier Part Number 1: CY22394FXC-ND; Supplier 2: Mouser; Supplier Part Number 2: 727-CY22394FXC; Max. Operating Temp. (degreesC): 70; Min. Operating Temp. (degreesC): 0; Packing: Tube; RoHS: Pb-Free; Mounting Technology: Surface Mount; Code_JEDEC: MO-153; ComponentLink1Description: Manufacturer URL; ComponentLink1URL: http://www.cypress.com/; ComponentLink2Description: Datasheet; ComponentLink2URL: http://www.cypress.com/?docID=35555; ComponentLink3Description: Package Specification; ComponentLink3URL: http://www.cypress.com/?docID=39143
footprint CYP-ZX16_N (SOP, 16-Leads, Body 5.1x4.5mm, Pitch 0.65mm, IPC Medium Density)
footprint CYP-ZX16_L (SOP, 16-Leads, Body 5.1x4.5mm, Pitch 0.65mm, IPC High Density)
footprint CYP-ZX16_M (SOP, 16-Leads, Body 5.1x4.5mm, Pitch 0.65mm, IPC Low Density)
pins: 1 CLKC (hiz) "Configurable clock output C", 2 VDD (power) "Power supply", 3 AGND (power) "Analog Ground", 4 XTALIN (in) "Reference crystal input or external reference clock input", 5 XTALOUT "Reference crystal feedback", 6 XBUF (hiz) "Buffered reference clock output", 7 P-CLK (hiz) "LV PECL output", 8 P+CLK (hiz) "LV PECL output", 9 CLKB (hiz) "Configurable clock output B; LCLKB referenced to LVDD", 10 CLKA (hiz) "Configurable clock output A; LCLKA referenced to LVDD", 11 GND (power) "Ground", 12 SDAT(S0) (io) "Serial port data. S0 value latched during start up", 13 SCLK(S1) (in) "Serial port clock. S1 value latched during start up", 14 AVDD (power) "Analog power supply", 15 S2/~{SUSPEND} (in) "General purpose input for frequency control; bit 2. Optionally, Suspend mode control input", 16 ~{SHUTDOWN}/OE (in) "Places outputs in tristate condition and shuts down chip when LOW. Optionally, only places outputs in tristate condition and does not shut down chip when LOW"

## CY22394FXCT
designator U?
Three-PLL Serial-Programmable Flash-Programmable Clock Generator, 3.3 V, 5 Outputs, 400 MHz Maximum, 0 to 70 degC, 16-Pin TSSOP (ZX16), Tape and Reel; Manufacturer: Cypress; PartNumber: CY22394FXCT; Input Frequency Max. (MHz): 166; Input Frequency Min. (MHz): 1; Max. Operating Voltage (V): 3.465; Min. Operating Voltage (V): 3.135; No. of Outputs: 5; Output Frequency Max. (MHz): 400; DatasheetVersion: Rev. *I; PackageVersion: Rev. *D, 09/2011; PackageReference: ZX16; PackageDescription: 16-Pin Thin Shrink Small Outline Package, Body 5 x 4.4 mm, Pitch 0.65 mm; Supplier 1: Digi-Key; Supplier Part Number 1: CY22394FXCT-ND; Supplier 2: Mouser; Supplier Part Number 2: 727-CY22394FXCT; Max. Operating Temp. (degreesC): 70; Min. Operating Temp. (degreesC): 0; Packing: Tape and Reel; RoHS: Pb-Free; Mounting Technology: Surface Mount; Code_JEDEC: MO-153; ComponentLink1Description: Manufacturer URL; ComponentLink1URL: http://www.cypress.com/; ComponentLink2Description: Datasheet; ComponentLink2URL: http://www.cypress.com/?docID=35555; ComponentLink3Description: Package Specification; ComponentLink3URL: http://www.cypress.com/?docID=39143
footprint CYP-ZX16_N (SOP, 16-Leads, Body 5.1x4.5mm, Pitch 0.65mm, IPC Medium Density)
footprint CYP-ZX16_L (SOP, 16-Leads, Body 5.1x4.5mm, Pitch 0.65mm, IPC High Density)
footprint CYP-ZX16_M (SOP, 16-Leads, Body 5.1x4.5mm, Pitch 0.65mm, IPC Low Density)
pins: 1 CLKC (hiz) "Configurable clock output C", 2 VDD (power) "Power supply", 3 AGND (power) "Analog Ground", 4 XTALIN (in) "Reference crystal input or external reference clock input", 5 XTALOUT "Reference crystal feedback", 6 XBUF (hiz) "Buffered reference clock output", 7 P-CLK (hiz) "LV PECL output", 8 P+CLK (hiz) "LV PECL output", 9 CLKB (hiz) "Configurable clock output B; LCLKB referenced to LVDD", 10 CLKA (hiz) "Configurable clock output A; LCLKA referenced to LVDD", 11 GND (power) "Ground", 12 SDAT(S0) (io) "Serial port data. S0 value latched during start up", 13 SCLK(S1) (in) "Serial port clock. S1 value latched during start up", 14 AVDD (power) "Analog power supply", 15 S2/~{SUSPEND} (in) "General purpose input for frequency control; bit 2. Optionally, Suspend mode control input", 16 ~{SHUTDOWN}/OE (in) "Places outputs in tristate condition and shuts down chip when LOW. Optionally, only places outputs in tristate condition and does not shut down chip when LOW"

## CY22394FXI
designator U?
Three-PLL Serial-Programmable Flash-Programmable Clock Generator, 3.3 V, 5 Outputs, 375 MHz Maximum, -40 to 85 degC, 16-Pin TSSOP (ZX16), Tube; Manufacturer: Cypress; PartNumber: CY22394FXI; Input Frequency Max. (MHz): 150; Input Frequency Min. (MHz): 1; Max. Operating Voltage (V): 3.465; Min. Operating Voltage (V): 3.135; No. of Outputs: 5; Output Frequency Max. (MHz): 375; DatasheetVersion: Rev. *I; PackageVersion: Rev. *D, 09/2011; PackageReference: ZX16; PackageDescription: 16-Pin Thin Shrink Small Outline Package, Body 5 x 4.4 mm, Pitch 0.65 mm; Supplier 1: Digi-Key; Supplier Part Number 1: 428-2181-5-ND; Supplier 2: Newark; Supplier Part Number 2: 19M5899; Supplier 3: Mouser; Supplier Part Number 3: 727-CY22394FXI; Max. Operating Temp. (degreesC): 85; Min. Operating Temp. (degreesC): -40; Packing: Tube; RoHS: Pb-Free; Mounting Technology: Surface Mount; Code_JEDEC: MO-153; ComponentLink1Description: Manufacturer URL; ComponentLink1URL: http://www.cypress.com/; ComponentLink2Description: Datasheet; ComponentLink2URL: http://www.cypress.com/?docID=35555; ComponentLink3Description: Package Specification; ComponentLink3URL: http://www.cypress.com/?docID=39143
footprint CYP-ZX16_N (SOP, 16-Leads, Body 5.1x4.5mm, Pitch 0.65mm, IPC Medium Density)
footprint CYP-ZX16_L (SOP, 16-Leads, Body 5.1x4.5mm, Pitch 0.65mm, IPC High Density)
footprint CYP-ZX16_M (SOP, 16-Leads, Body 5.1x4.5mm, Pitch 0.65mm, IPC Low Density)
pins: 1 CLKC (hiz) "Configurable clock output C", 2 VDD (power) "Power supply", 3 AGND (power) "Analog Ground", 4 XTALIN (in) "Reference crystal input or external reference clock input", 5 XTALOUT "Reference crystal feedback", 6 XBUF (hiz) "Buffered reference clock output", 7 P-CLK (hiz) "LV PECL output", 8 P+CLK (hiz) "LV PECL output", 9 CLKB (hiz) "Configurable clock output B; LCLKB referenced to LVDD", 10 CLKA (hiz) "Configurable clock output A; LCLKA referenced to LVDD", 11 GND (power) "Ground", 12 SDAT(S0) (io) "Serial port data. S0 value latched during start up", 13 SCLK(S1) (in) "Serial port clock. S1 value latched during start up", 14 AVDD (power) "Analog power supply", 15 S2/~{SUSPEND} (in) "General purpose input for frequency control; bit 2. Optionally, Suspend mode control input", 16 ~{SHUTDOWN}/OE (in) "Places outputs in tristate condition and shuts down chip when LOW. Optionally, only places outputs in tristate condition and does not shut down chip when LOW"

## CY22394FXIT
designator U?
Three-PLL Serial-Programmable Flash-Programmable Clock Generator, 3.3 V, 5 Outputs, 375 MHz Maximum, -40 to 85 degC, 16-Pin TSSOP (ZX16), Tape and Reel; Manufacturer: Cypress; PartNumber: CY22394FXIT; Input Frequency Max. (MHz): 150; Input Frequency Min. (MHz): 1; Max. Operating Voltage (V): 3.465; Min. Operating Voltage (V): 3.135; No. of Outputs: 5; Output Frequency Max. (MHz): 375; DatasheetVersion: Rev. *I; PackageVersion: Rev. *D, 09/2011; PackageReference: ZX16; PackageDescription: 16-Pin Thin Shrink Small Outline Package, Body 5 x 4.4 mm, Pitch 0.65 mm; Supplier 1: Digi-Key; Supplier Part Number 1: CY22394FXIT-ND; Supplier 2: Mouser; Supplier Part Number 2: 727-CY22394FXIT; Max. Operating Temp. (degreesC): 85; Min. Operating Temp. (degreesC): -40; Packing: Tape and Reel; RoHS: Pb-Free; Mounting Technology: Surface Mount; Code_JEDEC: MO-153; ComponentLink1Description: Manufacturer URL; ComponentLink1URL: http://www.cypress.com/; ComponentLink2Description: Datasheet; ComponentLink2URL: http://www.cypress.com/?docID=35555; ComponentLink3Description: Package Specification; ComponentLink3URL: http://www.cypress.com/?docID=39143
footprint CYP-ZX16_N (SOP, 16-Leads, Body 5.1x4.5mm, Pitch 0.65mm, IPC Medium Density)
footprint CYP-ZX16_L (SOP, 16-Leads, Body 5.1x4.5mm, Pitch 0.65mm, IPC High Density)
footprint CYP-ZX16_M (SOP, 16-Leads, Body 5.1x4.5mm, Pitch 0.65mm, IPC Low Density)
pins: 1 CLKC (hiz) "Configurable clock output C", 2 VDD (power) "Power supply", 3 AGND (power) "Analog Ground", 4 XTALIN (in) "Reference crystal input or external reference clock input", 5 XTALOUT "Reference crystal feedback", 6 XBUF (hiz) "Buffered reference clock output", 7 P-CLK (hiz) "LV PECL output", 8 P+CLK (hiz) "LV PECL output", 9 CLKB (hiz) "Configurable clock output B; LCLKB referenced to LVDD", 10 CLKA (hiz) "Configurable clock output A; LCLKA referenced to LVDD", 11 GND (power) "Ground", 12 SDAT(S0) (io) "Serial port data. S0 value latched during start up", 13 SCLK(S1) (in) "Serial port clock. S1 value latched during start up", 14 AVDD (power) "Analog power supply", 15 S2/~{SUSPEND} (in) "General purpose input for frequency control; bit 2. Optionally, Suspend mode control input", 16 ~{SHUTDOWN}/OE (in) "Places outputs in tristate condition and shuts down chip when LOW. Optionally, only places outputs in tristate condition and does not shut down chip when LOW"

## CY22395FXC
designator U?
Three-PLL Serial-Programmable Flash-Programmable Clock Generator, 2.5 / 3.3 V, 5 Outputs, 200 MHz Maximum, 0 to 70 degC, 16-Pin TSSOP (ZX16), Tube; Manufacturer: Cypress; PartNumber: CY22395FXC; Input Frequency Max. (MHz): 166; Input Frequency Min. (MHz): 1; Max. Operating Voltage (V): 3.465; Min. Operating Voltage (V): 3.135; No. of Outputs: 5; Output Frequency Max. (MHz): 200; DatasheetVersion: Rev. *I; PackageVersion: Rev. *D, 09/2011; PackageReference: ZX16; PackageDescription: 16-Pin Thin Shrink Small Outline Package, Body 5 x 4.4 mm, Pitch 0.65 mm; Supplier 1: Digi-Key; Supplier Part Number 1: 428-2182-5-ND; Supplier 2: Newark; Supplier Part Number 2: 19M5902; Supplier 3: Mouser; Supplier Part Number 3: 727-CY22395FXC; Max. Operating Temp. (degreesC): 70; Min. Operating Temp. (degreesC): 0; Packing: Tube; RoHS: Pb-Free; Mounting Technology: Surface Mount; Code_JEDEC: MO-153; ComponentLink1Description: Manufacturer URL; ComponentLink1URL: http://www.cypress.com/; ComponentLink2Description: Datasheet; ComponentLink2URL: http://www.cypress.com/?docID=35555; ComponentLink3Description: Package Specification; ComponentLink3URL: http://www.cypress.com/?docID=39143
footprint CYP-ZX16_N (SOP, 16-Leads, Body 5.1x4.5mm, Pitch 0.65mm, IPC Medium Density)
footprint CYP-ZX16_L (SOP, 16-Leads, Body 5.1x4.5mm, Pitch 0.65mm, IPC High Density)
footprint CYP-ZX16_M (SOP, 16-Leads, Body 5.1x4.5mm, Pitch 0.65mm, IPC Low Density)
pins: 1 CLKC (hiz) "Configurable clock output C", 2 VDD (power) "Power supply", 3 AGND (power) "Analog Ground", 4 XTALIN (in) "Reference crystal input or external reference clock input", 5 XTALOUT "Reference crystal feedback", 6 LVDD (power) "Low voltage clock output power supply", 7 LCLKD (hiz) "Configurable clock output D; LCLKD referenced to LVDD", 8 LCLKE (hiz) "Configurable clock output E; LCLKE referenced to LVDD", 9 LCLKB (hiz) "Configurable clock output B; LCLKB referenced to LVDD", 10 LCLKA (hiz) "Configurable clock output A; LCLKA referenced to LVDD", 11 GND/LGND (power) "Ground", 12 SDAT(S0) (io) "Serial port data. S0 value latched during start up", 13 SLCLK(S1) (in) "Serial port clock. S1 value latched during start up", 14 AVDD (power) "Analog power supply", 15 S2/~{SUSPEND} (in) "General purpose input for frequency control; bit 2. Optionally, Suspend mode control input", 16 ~{SHUTDOWN}/OE (in) "Places outputs in tristate condition and shuts down chip when LOW. Optionally, only places outputs in tristate condition and does not shut down chip when LOW"

## CY22395FXCT
designator U?
Three-PLL Serial-Programmable Flash-Programmable Clock Generator, 2.5 / 3.3 V, 5 Outputs, 200 MHz Maximum, 0 to 70 degC, 16-Pin TSSOP (ZX16), Tape and Reel; Manufacturer: Cypress; PartNumber: CY22395FXCT; Input Frequency Max. (MHz): 166; Input Frequency Min. (MHz): 1; Max. Operating Voltage (V): 3.465; Min. Operating Voltage (V): 3.135; No. of Outputs: 5; Output Frequency Max. (MHz): 200; DatasheetVersion: Rev. *I; PackageVersion: Rev. *D, 09/2011; PackageReference: ZX16; PackageDescription: 16-Pin Thin Shrink Small Outline Package, Body 5 x 4.4 mm, Pitch 0.65 mm; Supplier 1: Digi-Key; Supplier Part Number 1: CY22395FXCT-ND; Supplier 2: Mouser; Supplier Part Number 2: 727-CY22395FXCT; Max. Operating Temp. (degreesC): 70; Min. Operating Temp. (degreesC): 0; Packing: Tape and Reel; RoHS: Pb-Free; Mounting Technology: Surface Mount; Code_JEDEC: MO-153; ComponentLink1Description: Manufacturer URL; ComponentLink1URL: http://www.cypress.com/; ComponentLink2Description: Datasheet; ComponentLink2URL: http://www.cypress.com/?docID=35555; ComponentLink3Description: Package Specification; ComponentLink3URL: http://www.cypress.com/?docID=39143
footprint CYP-ZX16_N (SOP, 16-Leads, Body 5.1x4.5mm, Pitch 0.65mm, IPC Medium Density)
footprint CYP-ZX16_L (SOP, 16-Leads, Body 5.1x4.5mm, Pitch 0.65mm, IPC High Density)
footprint CYP-ZX16_M (SOP, 16-Leads, Body 5.1x4.5mm, Pitch 0.65mm, IPC Low Density)
pins: 1 CLKC (hiz) "Configurable clock output C", 2 VDD (power) "Power supply", 3 AGND (power) "Analog Ground", 4 XTALIN (in) "Reference crystal input or external reference clock input", 5 XTALOUT "Reference crystal feedback", 6 LVDD (power) "Low voltage clock output power supply", 7 LCLKD (hiz) "Configurable clock output D; LCLKD referenced to LVDD", 8 LCLKE (hiz) "Configurable clock output E; LCLKE referenced to LVDD", 9 LCLKB (hiz) "Configurable clock output B; LCLKB referenced to LVDD", 10 LCLKA (hiz) "Configurable clock output A; LCLKA referenced to LVDD", 11 GND/LGND (power) "Ground", 12 SDAT(S0) (io) "Serial port data. S0 value latched during start up", 13 SLCLK(S1) (in) "Serial port clock. S1 value latched during start up", 14 AVDD (power) "Analog power supply", 15 S2/~{SUSPEND} (in) "General purpose input for frequency control; bit 2. Optionally, Suspend mode control input", 16 ~{SHUTDOWN}/OE (in) "Places outputs in tristate condition and shuts down chip when LOW. Optionally, only places outputs in tristate condition and does not shut down chip when LOW"

## CY22395FXI
designator U?
Three-PLL Serial-Programmable Flash-Programmable Clock Generator, 2.5 / 3.3 V, 5 Outputs, 166 MHz Maximum, -40 to 85 degC, 16-Pin TSSOP (ZX16), Tube; Manufacturer: Cypress; PartNumber: CY22395FXI; Input Frequency Max. (MHz): 150; Input Frequency Min. (MHz): 1; Max. Operating Voltage (V): 3.465; Min. Operating Voltage (V): 3.135; No. of Outputs: 5; Output Frequency Max. (MHz): 166; DatasheetVersion: Rev. *I; PackageVersion: Rev. *D, 09/2011; PackageReference: ZX16; PackageDescription: 16-Pin Thin Shrink Small Outline Package, Body 5 x 4.4 mm, Pitch 0.65 mm; Supplier 1: Digi-Key; Supplier Part Number 1: 428-2183-5-ND; Supplier 2: Mouser; Supplier Part Number 2: 727-CY22395FXI; Max. Operating Temp. (degreesC): 85; Min. Operating Temp. (degreesC): -40; Packing: Tube; RoHS: Pb-Free; Mounting Technology: Surface Mount; Code_JEDEC: MO-153; ComponentLink1Description: Manufacturer URL; ComponentLink1URL: http://www.cypress.com/; ComponentLink2Description: Datasheet; ComponentLink2URL: http://www.cypress.com/?docID=35555; ComponentLink3Description: Package Specification; ComponentLink3URL: http://www.cypress.com/?docID=39143
footprint CYP-ZX16_N (SOP, 16-Leads, Body 5.1x4.5mm, Pitch 0.65mm, IPC Medium Density)
footprint CYP-ZX16_L (SOP, 16-Leads, Body 5.1x4.5mm, Pitch 0.65mm, IPC High Density)
footprint CYP-ZX16_M (SOP, 16-Leads, Body 5.1x4.5mm, Pitch 0.65mm, IPC Low Density)
pins: 1 CLKC (hiz) "Configurable clock output C", 2 VDD (power) "Power supply", 3 AGND (power) "Analog Ground", 4 XTALIN (in) "Reference crystal input or external reference clock input", 5 XTALOUT "Reference crystal feedback", 6 LVDD (power) "Low voltage clock output power supply", 7 LCLKD (hiz) "Configurable clock output D; LCLKD referenced to LVDD", 8 LCLKE (hiz) "Configurable clock output E; LCLKE referenced to LVDD", 9 LCLKB (hiz) "Configurable clock output B; LCLKB referenced to LVDD", 10 LCLKA (hiz) "Configurable clock output A; LCLKA referenced to LVDD", 11 GND/LGND (power) "Ground", 12 SDAT(S0) (io) "Serial port data. S0 value latched during start up", 13 SLCLK(S1) (in) "Serial port clock. S1 value latched during start up", 14 AVDD (power) "Analog power supply", 15 S2/~{SUSPEND} (in) "General purpose input for frequency control; bit 2. Optionally, Suspend mode control input", 16 ~{SHUTDOWN}/OE (in) "Places outputs in tristate condition and shuts down chip when LOW. Optionally, only places outputs in tristate condition and does not shut down chip when LOW"